# Altium schematic symbol library 100DP6T1B1M6QEH.SchLib: 1 symbol
Pins are listed as number, name and electrical type; pins without a type are passive.

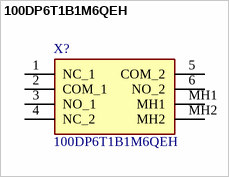
[diagram p0: symbol 100DP6T1B1M6QEH]

## 100DP6T1B1M6QEH
designator X?
TOGGLE, 5A, 120VAC/28VDC DPDT, On-On-On Panel Mount, Right Angle; Manufacturer_Name: E-Switch; Geometry.Height: 11.43mm; Mouser Part Number: 612-100DP6T1B1M6QEH; Mouser Price/Stock: https://www.mouser.co.uk/ProductDetail/E-Switch/100DP6T1B1M6QEH?qs=f57gQzlyLiqJaVfqjUPBDA%3D%3D; Manufacturer_Part_Number: 100DP6T1B1M6QEH; Datasheet Link: https://configured-product-images.s3.amazonaws.com/2D/specs/100DP6T1B1M6QEH.pdf
footprint 100DP6T1B1M6QEH
pins: 1 NC_1, 2 COM_1, 3 NO_1, 4 NC_2, 5 COM_2, 6 NO_2, MH1, MH2